# EAGLE library part FSA2275AUMX (library FSA2275AUMX)
ON Semiconductor FSA2275AUMX, Audio Switch IC DPDT, 3.3 V dc, 12-Pin UMLP Source: Datasheet <https://www.onsemi.com/pub/Collateral/FSA2275A-D.pdf>
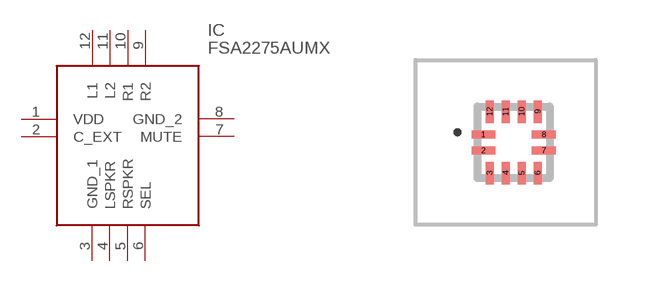
[diagram p0: symbol with the pads of FSA2275AUMX; footprint FSA2275AUMX]

Designator prefix IC

## FSA2275AUMX (Arrow_Part_Number: FSA2275AUMX; Arrow_Price-Stock: https://www.arrow.com/en/products/fsa2275aumx/on-semiconductor; Description: ON Semiconductor FSA2275AUMX, Audio Switch IC DPDT, 3.3 V dc, 12-Pin UMLP; Height: 0.6mm; Manufacturer_Name: onsemi; Manufacturer_Part_Number: FSA2275AUMX; Mouser_Part_Number: 512-FSA2275AUMX; Mouser_Price-Stock: https://www.mouser.co.uk/ProductDetail/ON-Semiconductor-Fairchild/FSA2275AUMX?qs=Mv7BduZupUhxHdQdUdEuNg%3D%3D)  [FSA2275AUMX]
1  VDD
2  C_EXT
3  GND_1
4  LSPKR
5  RSPKR
6  SEL
7  MUTE
8  GND_2
9  R2
10  R1
11  L2
12  L1

## Footprint FSA2275AUMX (pad centres in mm)
FSA2275AUMX-4
smd 0.588 x 0.2: 1 -0.756,0.2; 2 -0.756,-0.2; 7 0.756,-0.2; 8 0.756,0.2
smd 0.2 x 0.563: 3 -0.6,-0.769; 4 -0.2,-0.769; 5 0.2,-0.769; 6 0.6,-0.769; 9 0.6,0.769; 10 0.2,0.769; 11 -0.2,0.769; 12 -0.6,0.769